# EAGLE library part VNH5019 (library ece195AB.ucd)
VNH5019A-E (STMicroelectronics) Full-bridge Motor Driver http://www.st.com/en/automotive-analog-and-power/vnh5019a-e.html Layout by Dan Fong (Dec 1, 2017)
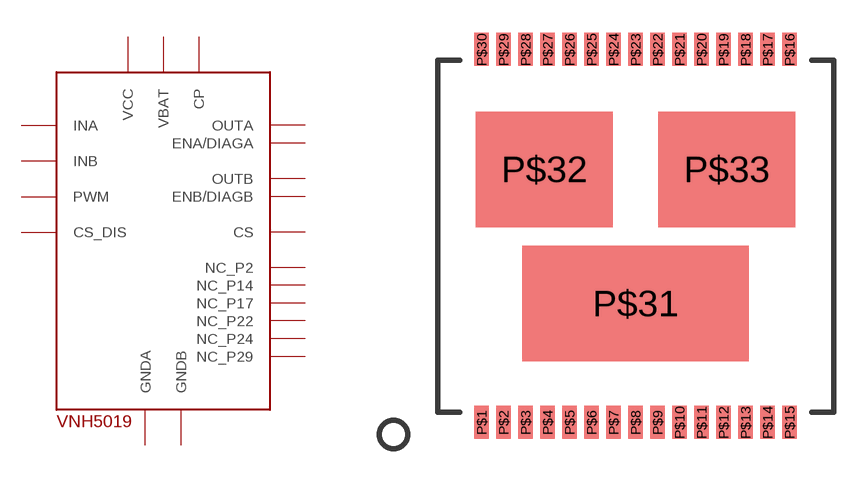
[diagram p0: symbol with the pads of MULTIPOWERSO-30; footprint MULTIPOWERSO-30]

Designator prefix -

## VNH5019  [MULTIPOWERSO-30]
P$1  OUTA  out
P$2  NC_P2
P$3  VCC  pwr
P$4  INA  in
P$5  ENA/DIAGA  out
P$6  CS_DIS  in
P$7  PWM  in
P$8  CS  out
P$9  ENB/DIAGB  out
P$10  INB  in
P$11  CP
P$12  VBAT  pwr
P$13  VCC  pwr
P$14  NC_P14
P$15  OUTB  out
P$16  OUTB  out
P$17  NC_P17
P$18  GNDB  pwr
P$19  GNDB  pwr
P$20  GNDB  pwr
P$21  OUTB  out
P$22  NC_P22
P$23  VCC  pwr
P$24  NC_P24
P$25  OUTA  out
P$26  GNDA  pwr
P$27  GNDA  pwr
P$28  GNDA  pwr
P$29  NC_P29
P$30  OUTA  out
P$31  VCC  pwr
P$32  OUTA  out
P$33  OUTB  out

## Footprint MULTIPOWERSO-30 (pad centres in mm)
smd 0.65 x 1.5: P$1 -7,-8.45; P$2 -6,-8.45; P$3 -5,-8.45; P$4 -4,-8.45; P$5 -3,-8.45; P$6 -2,-8.45; P$7 -1,-8.45; P$8 0,-8.45; P$9 1,-8.45; P$10 2,-8.45; P$11 3,-8.45; P$12 4,-8.45; P$13 5,-8.45; P$14 6,-8.45; P$15 7,-8.45; P$16 7,8.5; P$17 6,8.5; P$18 5,8.5; P$19 4,8.5; P$20 3,8.5; P$21 2,8.5; P$22 1,8.5; P$23 0,8.5; P$24 -1,8.5; P$25 -2,8.5; P$26 -3,8.5; P$27 -4,8.5; P$28 -5,8.5; P$29 -6,8.5; P$30 -7,8.5
smd 10.3 x 5.25: P$31 0,-3.05
smd 6.23 x 5.25: P$32 -4.15,3.05; P$33 4.15,3.05